# Altium footprint library ComponentLibrary.PcbLib: 153 footprints (part 6 of 10)
Each footprint in its own frame and in the unit in brackets; x right, y up, seen from the top. Pads: shape width x height; smd on the part's side, far side on the other; paste and mask are expansions set on the pad; w line width, h text height; cw(c..) or ccw(c..) is an arc to the next point about the centre after c.
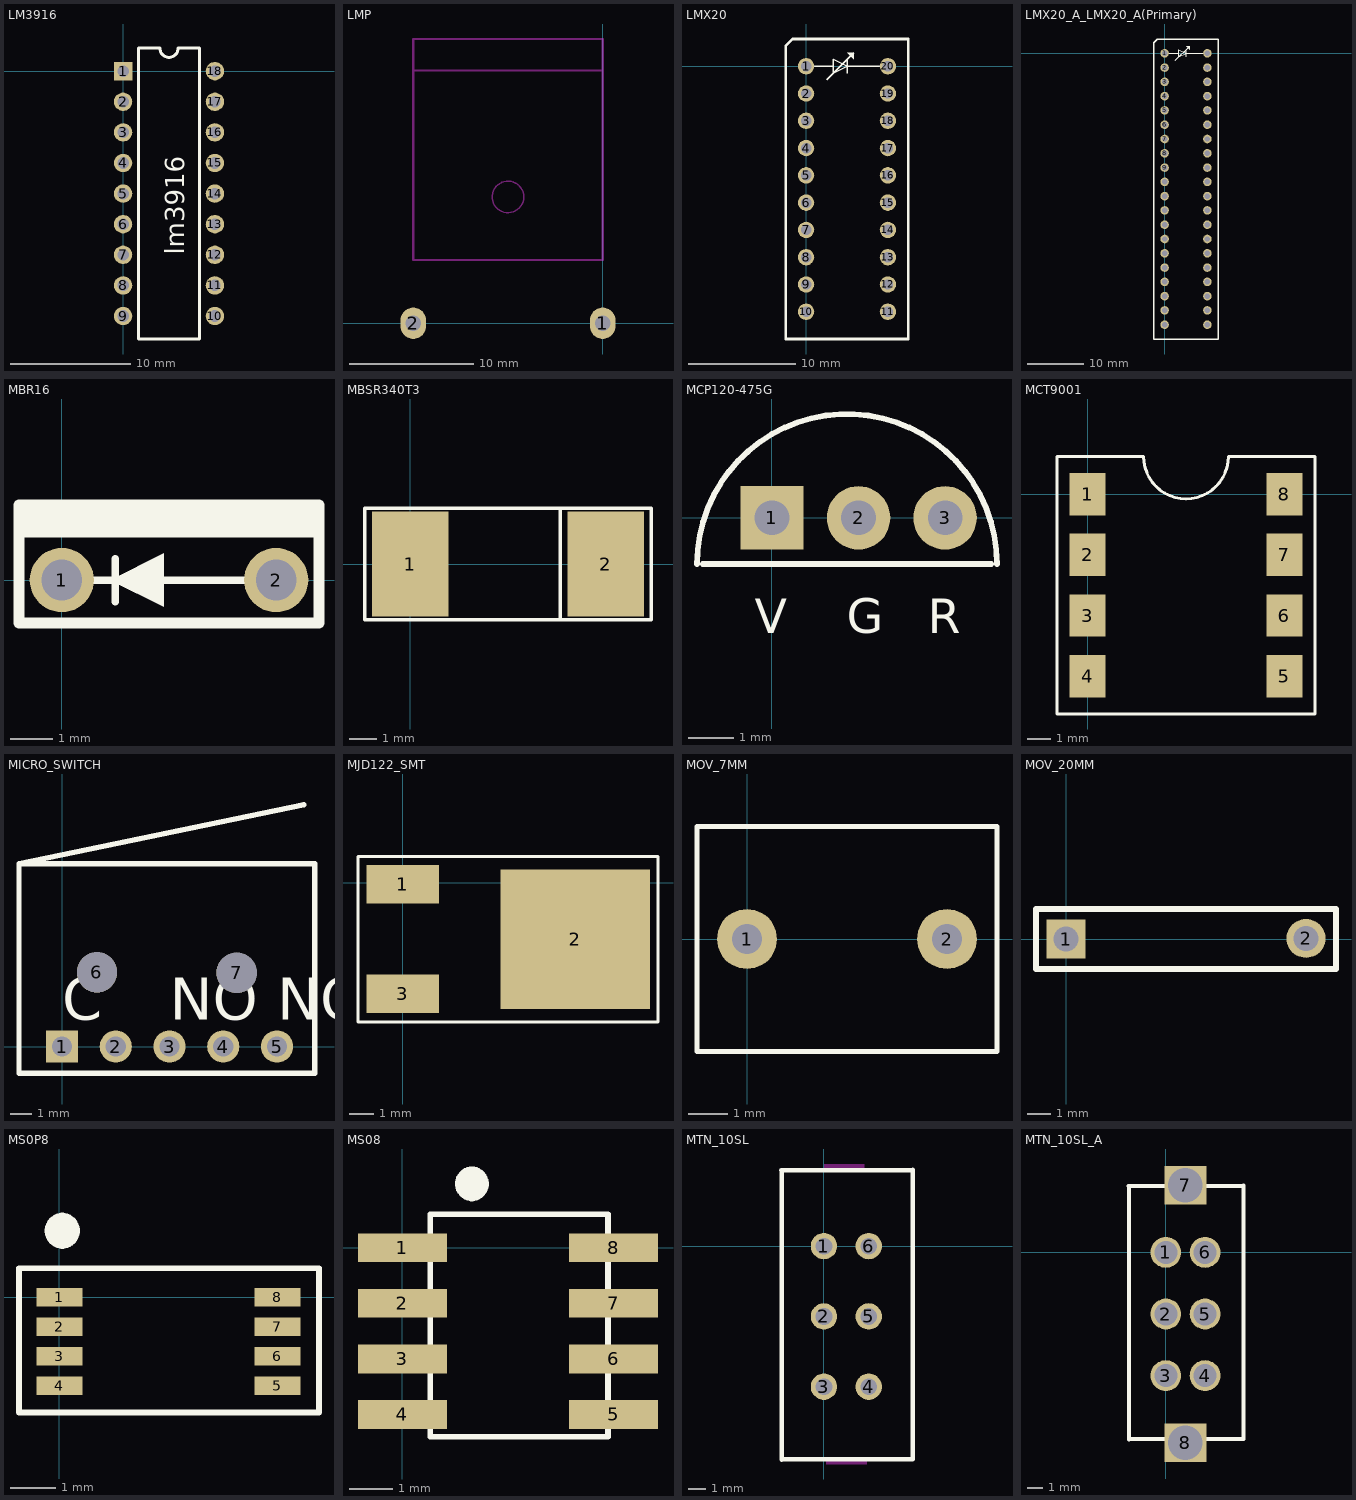
[diagram p5: the footprints below, top view; thin cyan lines are the x and y axes]

## LM3916 [mil]
pads (18):
  rect 60x60 hole 38: 1(0,0)
  round 60 hole 38: 2(0,-100) 3(0,-200) 4(0,-300) 5(0,-400) 6(0,-500) 7(0,-600) 8(0,-700) 9(0,-800) 10(300,-800) 11(300,-700) 12(300,-600) 13(300,-500) 14(300,-400) 15(300,-300) 16(300,-200) 17(300,-100) 18(300,0)
Top Overlay:
  lines w10: 50,-875 50,75 120,75 ccw(c150,75) 180,75 250,75 250,-875 50,-875
  text "lm3916" at 200,-600 h62.5

## LMP [mil]
pads (2):
  oval 80x100 hole 50: 1(0,0) 2(-600,0)
Keep-Out Layer:
  circle w5: c-300,400 r50
  lines w7: -600,800 0,800 ; -600,200 -600,900 0,900 0,200 -600,200

## LMX20 [mil]
pads (20):
  round 60 hole 38: 1(0,0) 2(0,-100) 3(0,-200) 4(0,-300) 5(0,-400) 6(0,-500) 7(0,-600) 8(0,-700) 9(0,-800) 10(0,-900) 11(300,-900) 12(300,-800) 13(300,-700) 14(300,-600) 15(300,-500) 16(300,-400) 17(300,-300) 18(300,-200) 19(300,-100) 20(300,0)
Top Overlay:
  region: 150,50 175,25 175,50
  lines w5: 0,0 75,0 ; 50,0 100,0 ; 75,-50 175,50 ; 150,-25 150,25 ; 300,0 200,0 150,0 ; 150,0 100,25 100,-25 150,0
  lines w10: -75,-1000 375,-1000 375,100 -50,100 -75,75 -75,-1000

## LMX20_A_LMX20_A(Primary) [mil]
pads (40):
  round 60 hole 38: 1(0,0) 2(0,-100) 3(0,-200) 4(0,-300) 5(0,-400) 6(0,-500) 7(0,-600) 8(0,-700) 9(0,-800) 10(0,-900) 11(0,-1000) 12(0,-1100) 13(0,-1200) 14(0,-1300) 15(0,-1400) 16(0,-1500) 17(0,-1600) 18(0,-1700) 19(0,-1800) 20(0,-1900) 21(300,0) 22(300,-700) 23(300,-800) 24(300,-100) 25(300,-900) 26(300,-1000) 27(300,-200) 28(300,-1100) 29(300,-1200) 30(300,-300) 31(300,-1300) 32(300,-1400) 33(300,-400) 34(300,-1500) 35(300,-1600) 36(300,-500) 37(300,-1700) 38(300,-1800) 39(300,-600) 40(300,-1900)
Top Overlay:
  region: 150,50 175,25 175,50
  lines w5: 0,0 75,0 ; 50,0 100,0 ; 75,-50 175,50 ; 150,-25 150,25 ; 300,0 200,0 150,0 ; 150,0 100,25 100,-25 150,0
  lines w10: -75,-2000 375,-2000 375,100 -50,100 -75,75 -75,-2000

## MBR16 [mil]
pads (2):
  round 60 hole 38: 1(0,0) 2(200,0)
Top Overlay:
  region: 95,-25 95,25 45,0
  region: -40,70 -40,40 240,40 240,70
  lines w7: 30,0 45,0 170,0 ; 50,-20 50,20
  lines w10: -40,-40 -40,70 240,70 240,-40 -40,-40

## MBSR340T3 [mil]
pads (2):
  rect 110x150 smd: 1(0,0) 2(280,0)
Top Overlay:
  lines w5: 215,-80 215,80 ; -65,-80 345,-80 345,80 -65,80 -65,-80

## MCP120-475G [mil]
pads (3):
  rect 55x55 hole 30: 1(0,0)
  round 55 hole 30: 2(75,0) 3(150,0)
Top Overlay:
  lines w5: -65,-40 cw(c65,-40) 195,-40 ; -60,-40 190,-40
  text "G" at 65,-100 h30
  text "R" at 135,-100 h30
  text "V" at -15,-100 h30

## MCT9001 [mil]
pads (8):
  rect 60x70 smd: 1(0,0) 2(0,-100) 3(0,-200) 4(0,-300) 5(325,-300) 6(325,-200) 7(325,-100) 8(325,0)
Top Overlay:
  lines w5: -50,-362.5 375,-362.5 375,62.5 232.5,62.5 cw(c162.5,62.5) 92.5,62.5 -50,62.5 -50,-362.5

## MICRO_SWITCH [mil]
pads (7):
  rect 60x60 hole 38: 1(0,0)
  round 60 hole 38: 2(100,0) 3(200,0) 4(300,0) 5(400,0)
  round 75 hole 75 unplated: 6(65,138) 7(325,137)
Top Overlay:
  lines w10: 450,450 -80,340 ; -80,340 470,340 470,-50 -80,-50 -80,340
  text "C" at 0,50 h78.12
  text "NC" at 400,50 h78.12
  text "NO" at 200,50 h78.12

## MJD122_SMT [mil]
pads (3):
  rect 118x63 smd: 1(0,-2) 3(0,-181)
  rect 244x228 smd: 2(282,-92)
Top Overlay:
  lines w5: -73,-227 -73,43 417,43 417,-227 -73,-227

## MOV_7MM [mil]
pads (2):
  round 60 hole 30: 1(0,0) 2(200,0)
Top Overlay:
  lines w5: -50,-112.5 -50,112.5 250,112.5 250,-112.5 -50,-112.5

## MOV_20MM [mil]
pads (2):
  rect 65x65 hole 42: 1(0,0)
  round 65 hole 42: 2(400,1)
Top Overlay:
  lines w10: -50,-50 450,-50 450,50 -50,50 -50,-50

## MS0P8 [mil]
pads (8):
  rect 40x16 smd: 1(0,0) 2(0,-25.6) 3(0,-51.4) 4(0,-76.8) 5(189,-76.8) 6(189,-51.4) 7(189,-25.6) 8(189,0)
Top Overlay:
  region: 0,70 -10,60 -10,55 0,45 10,45 15,55 15,65
  lines w5: 2,44.26 ccw(c2,57.5) 2,70.74 ; 3,44.26 cw(c3,57.5) 3,70.74 ; -35,-100 -35,25 225,25 225,-100 -35,-100

## MS08 [mil]
pads (8):
  rect 80x26 smd: 1(0,0) 2(0,-50) 3(0,-100) 4(0,-150) 5(190,-150) 6(190,-100) 7(190,-50) 8(190,0)
Top Overlay:
  region: 60,70 50,60 50,55 60,45 70,45 75,55 75,65
  lines w5: 62,44.26 ccw(c62,57.5) 62,70.74 ; 63,44.26 cw(c63,57.5) 63,70.74 ; 25,-170 185,-170 185,30 25,30 25,-170

## MTN_10SL [mil]
pads (6):
  round 60 hole 38: 1(0,0) 2(0,-160) 3(0,-320) 4(102,-320) 5(102,-160) 6(102,0)
Top Overlay:
  lines w10: -97,173 202,173 ; -96,-486 -96,173 ; -96,-485 202,-485 ; 202,-484 202,174
Keep-Out Layer:
  pour cut-out: 52,-496 55,-496 60,-496 97,-496 97,-484 47,-484 5,-484 5,-496
  pour cut-out: 38,175 41,175 45,175 52,175 92,175 92,187 45,187 1,187 1,175

## MTN_10SL_A [mil]
pads (8):
  round 80 hole 60: 1(0,0) 2(0,-160) 3(0,-320) 4(102,-320) 5(102,-160) 6(102,0)
  rect 110x100 hole 90: 7(51,175) 8(51,-495)
Top Overlay:
  lines w10: -97,173 202,173 ; -96,-486 -96,173 ; -96,-485 202,-485 ; 202,-484 202,174
Keep-Out Layer:
  pour cut-out: 38,175 41,175 45,175 52,175 92,175 92,187 45,187 1,187 1,175
  pour cut-out: 52,-496 55,-496 60,-496 97,-496 97,-484 47,-484 5,-484 5,-496